# Altium integrated library NXP_60_26022015.IntLib: 1306 symbols (part 1 of 28)
Pins are listed as number, name and electrical type; pins without a type are passive.

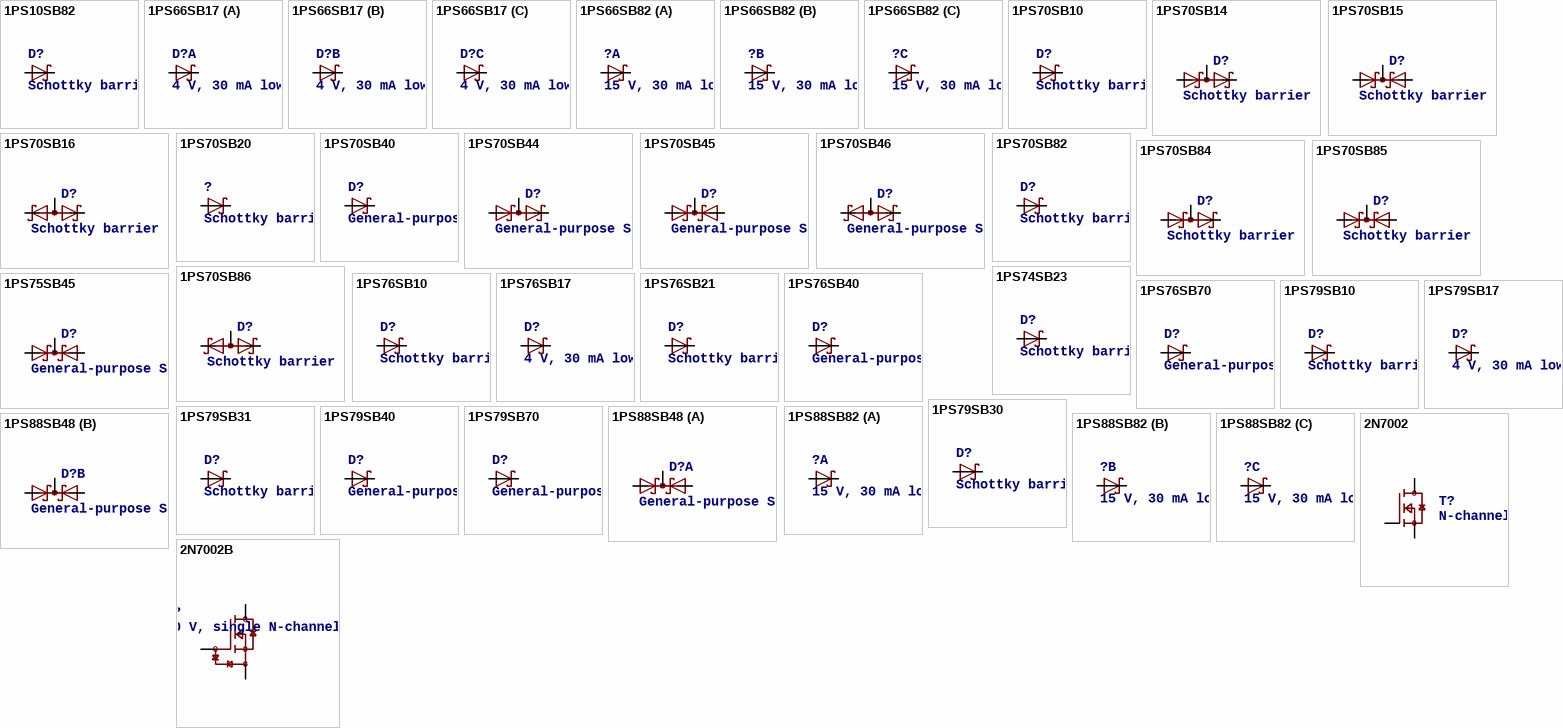
[diagram p0: symbols 1PS10SB82 to 2N7002B]

## 1PS10SB82
designator D?, comment Schottky barrier diode An epitaxial Schottky barrier diode encapsulated in a SOD882 leadless ultra small plastic package. ESD sensitive device, observe handling precautions.   AAL Eindhoven MK
footprint SOD882(T)
pins: 1 K, 2 A

## 1PS66SB17
designator D?, comment 4 V, 30 mA low Cd Schottky barrier diode Planar low capacitance Schottky barrier diode encapsulated in a very small SMD plastic package.   AAL Eindhoven MK
footprint SOT666
part A pins: 1 A, 6 K
part B pins: 2 A, 5 K
part C pins: 3 A, 4 K

## 1PS66SB82
designator ?, comment 15 V, 30 mA low Cd Schottky barrier diode  Epitaxial low capacitance Schottky barrier diodes encapsulated in very small SMD plastic packages.   AAL Eindhoven MK
footprint SOT666
part A pins: 1 A, 6 K
part B pins: 2 A, 5 K
part C pins: 3 A, 4 K

## 1PS70SB10
designator D?, comment Schottky barrier diode Planar Schottky barrier diode encapsulated in a SOT323 very small plastic SMD package. Single diodes and double diodes with different pinning are available.   AAL Eindhoven MK
footprint SOT323
pins: 1 A, 3 K

## 1PS70SB14
designator D?, comment Schottky barrier (double) diodes Planar Schottky barrier diode encapsulated in a SOT323 very small plastic SMD package. Single diodes and double diodes with different pinning are available.   AAL Eindhoven MK
footprint SOT323
pins: 1 A1, 2 K2, 3 K1A2

## 1PS70SB15
designator D?, comment Schottky barrier (double) diodes Planar Schottky barrier diode encapsulated in a SOT323 very small plastic SMD package. Single diodes and double diodes with different pinning are available.   AAL Eindhoven MK
footprint SOT323
pins: 1 A1, 2 A2, 3 K1K2

## 1PS70SB16
designator D?, comment Schottky barrier (double) diodes Planar Schottky barrier diode encapsulated in a SOT323 very small plastic SMD package. Single diodes and double diodes with different pinning are available.   AAL Eindhoven MK
footprint SOT323
pins: 1 K1, 2 K2, 3 A1A2

## 1PS70SB20
designator ?, comment Schottky barrier diode  Planar Schottky barrier diode with an integrated guard ring for stress protection in a SOT323 (SC-70) small SMD plastic package.   AAL Eindhoven MK
footprint SOT323
pins: 1 A, 3 K

## 1PS70SB40
designator D?, comment General-purpose Schottky diode  General-purpose Schottky diodes in small Surface-Mounted Device (SMD) plastic packages.    AAL Eindhoven MK
footprint SOT323
pins: 1 A, 3 K

## 1PS70SB44
designator D?, comment General-purpose Schottky diodes General-purpose Schottky diodes in small Surface-Mounted Device (SMD) plastic packages   AAL Eindhoven MK
footprint SOT323
pins: 1 A1, 2 K2, 3 K1A2

## 1PS70SB45
designator D?, comment General-purpose Schottky diodes General-purpose Schottky diodes in small Surface-Mounted Device (SMD) plastic packages   AAL Eindhoven MK
footprint SOT323
pins: 1 A1, 2 A2, 3 K1K2

## 1PS70SB46
designator D?, comment General-purpose Schottky diodes General-purpose Schottky diodes in small Surface-Mounted Device (SMD) plastic packages   AAL Eindhoven MK
footprint SOT323
pins: 1 K1, 2 K2, 3 A1A2

## 1PS70SB82
designator D?, comment Schottky barrier (double) diodes  Planar Schottky barrier diodes encapsulated in a SOT323 (SC-70) very small plastic SMD package. Single diodes and double diodes with different pinning are available. ESD sensitive device, observe handling precautions.   AAL Eindhoven MK
footprint SOT323
pins: 1 A, 3 K

## 1PS70SB84
designator D?, comment Schottky barrier (double) diodes  Planar Schottky barrier diodes encapsulated in a SOT323 (SC-70) very small plastic SMD package. Single diodes and double diodes with different pinning are available. ESD sensitive device, observe handling precautions.   AAL Eindhoven MK
footprint SOT323
pins: 1 A1, 2 K2, 3 K1A2

## 1PS70SB85
designator D?, comment Schottky barrier (double) diodes  Planar Schottky barrier diodes encapsulated in a SOT323 (SC-70) very small plastic SMD package. Single diodes and double diodes with different pinning are available. ESD sensitive device, observe handling precautions.   AAL Eindhoven MK
footprint SOT323
pins: 1 A1, 2 A2, 3 K1K2

## 1PS70SB86
designator D?, comment Schottky barrier (double) diodes  Planar Schottky barrier diodes encapsulated in a SOT323 (SC-70) very small plastic SMD package. Single diodes and double diodes with different pinning are available. ESD sensitive device, observe handling precautions.   AAL Eindhoven MK
footprint SOT323
pins: 1 K1, 2 K2, 3 A1A2

## 1PS74SB23
designator D?, comment Schottky barrier diode Planar Schottky barrier diode encapsulated in an SC-74 (SOT457) small plastic SMD package.   AAL Eindhoven MK
footprint SOT457
pins: 1 3 4 6 A, 2 5 K

## 1PS75SB45
designator D?, comment General-purpose Schottky diodes General-purpose Schottky diodes in small Surface-Mounted Device (SMD) plastic packages   AAL Eindhoven MK
footprint SOT416
pins: 1 A1, 2 A2, 3 K1K2

## 1PS76SB10
designator D?, comment Schottky barrier diode Planar Schottky barrier diode encapsulated in a SOD323 very small plastic SMD package.   AAL Eindhoven MK
footprint SOD323(F)
pins: 1 K, 2 A

## 1PS76SB17
designator D?, comment 4 V, 30 mA low Cd Schottky barrier diode Planar low capacitance Schottky barrier diode encapsulated in a very small SMD plastic package.   AAL Eindhoven MK
footprint SOD323(F)
pins: 1 K, 2 A

## 1PS76SB21
designator D?, comment Schottky barrier diodes in small packages Planar Schottky barrier diodes with an integrated guard ring for stress protection. Encapsulated in small Surface-Mounted Device (SMD) plastic packages.   AAL Eindhoven MK
footprint SOD323(F)
pins: 1 K, 2 A

## 1PS76SB40
designator D?, comment General-purpose Schottky diode  General-purpose Schottky diodes in small Surface-Mounted Device (SMD) plastic packages.    AAL Eindhoven MK
footprint SOD323(F)
pins: 1 K, 2 A

## 1PS76SB70
designator D?, comment General-purpose Schottky diode  General-purpose Schottky diodes in small Surface-Mounted Device (SMD) plastic packages.    AAL Eindhoven MK
footprint SOD323(F)
pins: 1 K, 2 A

## 1PS79SB10
designator D?, comment Schottky barrier diode Planar Schottky barrier diode encapsulated in a SC-79 ultra small plastic SMD package.    AAL Eindhoven MK
footprint SOD523
pins: 1 K, 2 A

## 1PS79SB17
designator D?, comment 4 V, 30 mA low Cd Schottky barrier diode Planar low capacitance Schottky barrier diode encapsulated in a very small SMD plastic package.   AAL Eindhoven MK
footprint SOD523
pins: 1 K, 2 A

## 1PS79SB30
designator D?, comment Schottky barrier diode Planar Schottky barrier diode encapsulated in a SC-79 ultra small plastic SMD package.    AAL Eindhoven MK
footprint SOD523
pins: 1 K, 2 A

## 1PS79SB31
designator D?, comment Schottky barrier diode Planar Schottky barrier diode encapsulated in a SC-79 ultra small plastic SMD package.    AAL Eindhoven MK
footprint SOD523
pins: 1 K, 2 A

## 1PS79SB40
designator D?, comment General-purpose Schottky diode  General-purpose Schottky diodes in small Surface-Mounted Device (SMD) plastic packages.    AAL Eindhoven MK
footprint SOD523
pins: 1 K, 2 A

## 1PS79SB70
designator D?, comment General-purpose Schottky diode  General-purpose Schottky diodes in small Surface-Mounted Device (SMD) plastic packages.    AAL Eindhoven MK
footprint SOD523
pins: 1 K, 2 A

## 1PS88SB48
designator D?, comment General-purpose Schottky diodes  General-purpose Schottky diodes in small Surface-Mounted Device (SMD) plastic packages.   AAL Eindhoven MK
footprint SOT363
part A pins: 1 A1, 2 A2, 6 K1K2
part B pins: 3 K1K2, 4 A1, 5 A2

## 1PS88SB82
designator ?, comment 15 V, 30 mA low Cd Schottky barrier diode  Epitaxial low capacitance Schottky barrier diodes encapsulated in very small SMD plastic packages.   AAL Eindhoven MK
footprint SOT363
part A pins: 1 A, 6 K
part B pins: 2 A, 5 K
part C pins: 3 A, 4 K

## 2N7002
designator T?, comment N-channel TrenchMOS FET N-channel enhancement mode Field-Effect Transistor (FET) in a plastic package using TrenchMOS technology.    AAL Eindhoven MK
footprint SOT23
pins: 1 G, 2 S, 3 D

## 2N7002B
designator T?, comment 60 V, single N-channel Trench MOSFET N-channel enhancement mode Field-Effect Transistor (FET) in a leadless ultra small DFN1006B-3 (SOT883B) Surface-Mounted Device (SMD) plastic package using Trench MOSFET technology.   AAL Eindhoven MK
footprint SOT883(B)
pins: 1 G, 2 S, 3 D

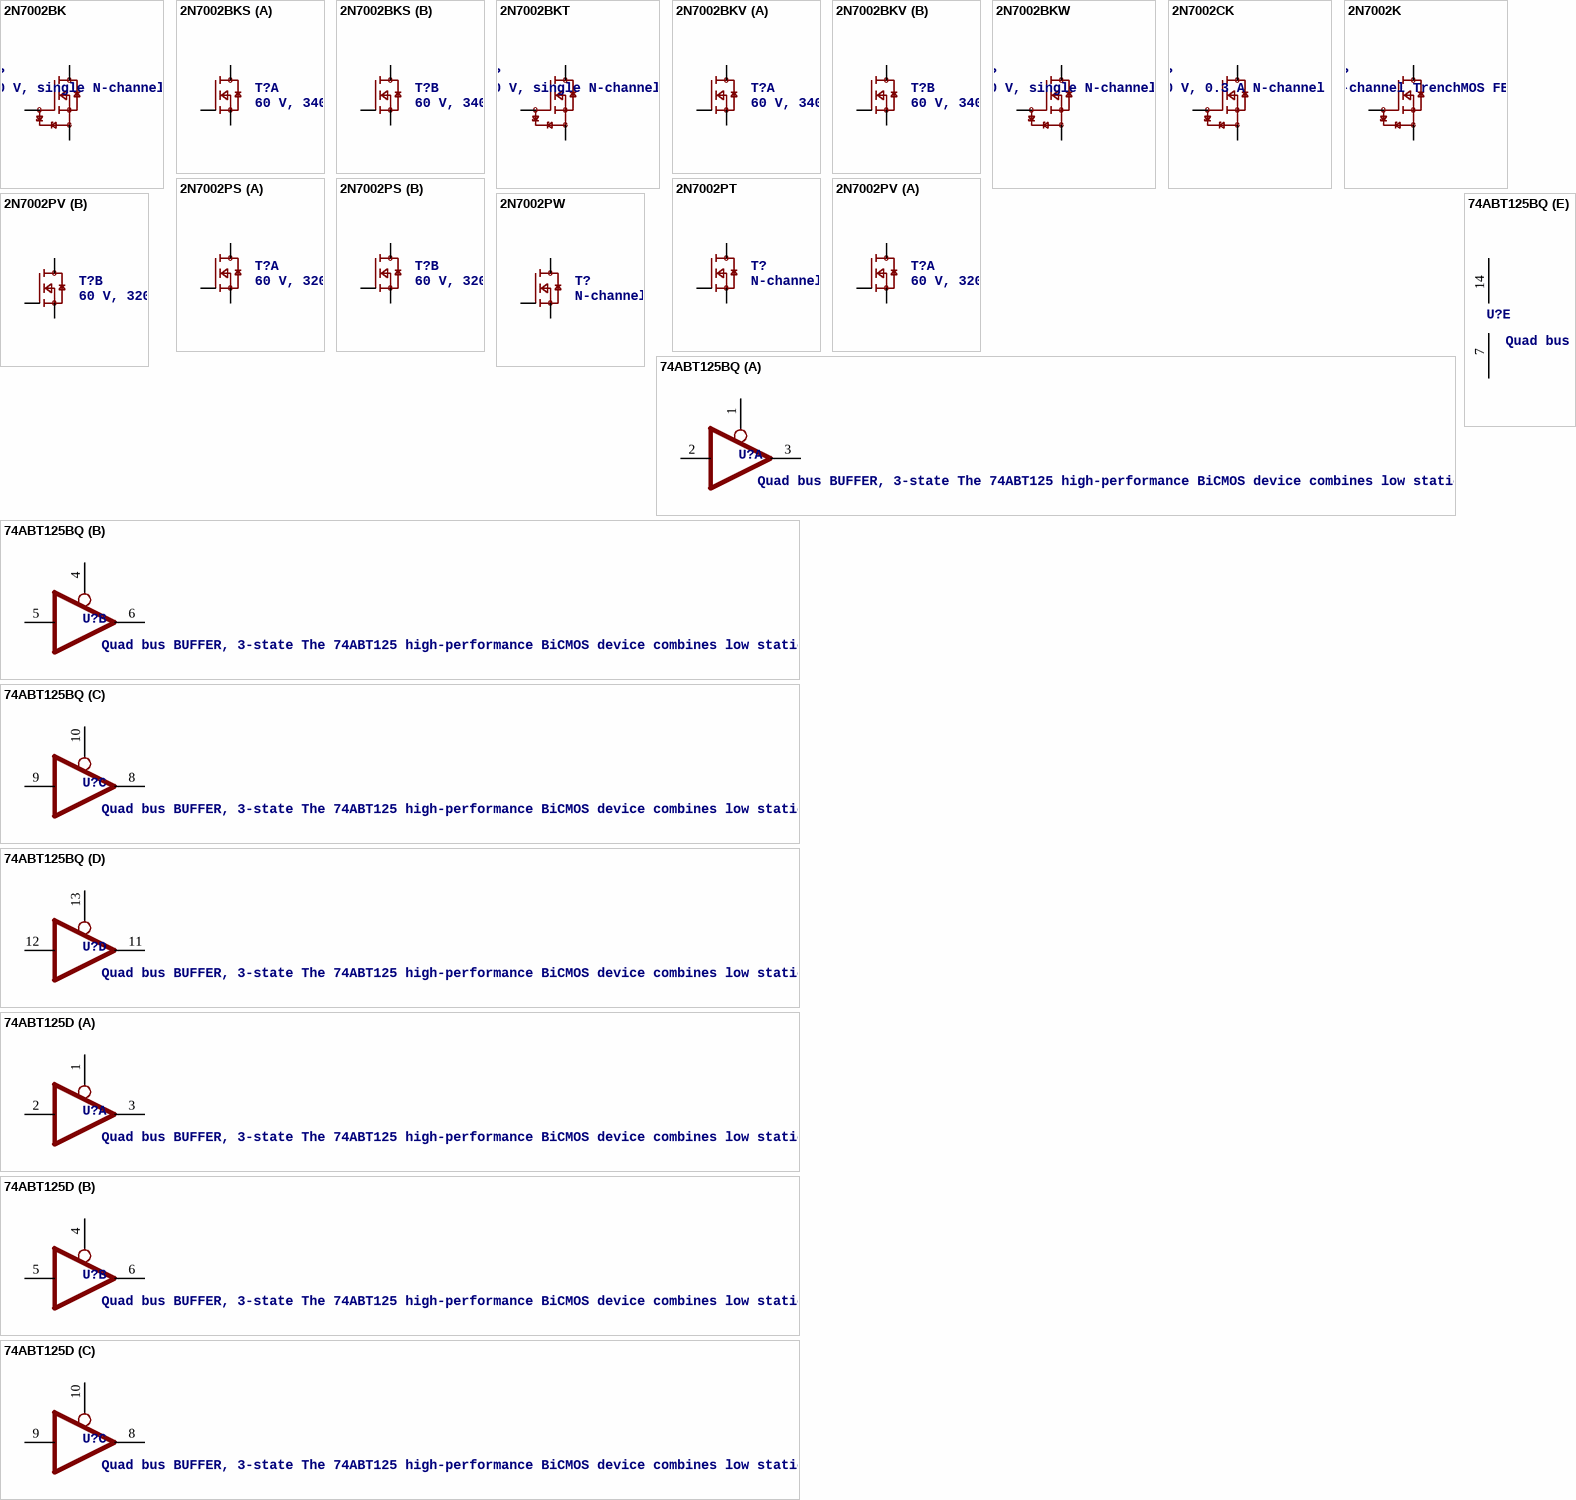
[diagram p1: symbols 2N7002BK to 74ABT125D]

## 2N7002BK
designator T?, comment 60 V, single N-channel Trench MOSFET N-channel enhancement mode Field-Effect Transistor (FET) in a leadless ultra small DFN1006B-3 (SOT883B) Surface-Mounted Device (SMD) plastic package using Trench MOSFET technology.   AAL Eindhoven MK
footprint SOT23
pins: 1 G, 2 S, 3 D

## 2N7002BKS
designator T?, comment 60 V, 340 mA dual N-channel Trench MOSFET Dual N-channel enhancement mode Field-Effect Transistor (FET) in an ultra small SOT666 Surface-Mounted Device (SMD) plastic package using Trench MOSFET technology.    AAL Eindhoven MK
footprint SOT363
part A pins: 1 S, 2 G, 6 D
part B pins: 3 D, 4 S, 5 G

## 2N7002BKT
designator T?, comment 60 V, single N-channel Trench MOSFET N-channel enhancement mode Field-Effect Transistor (FET) in a leadless ultra small DFN1006B-3 (SOT883B) Surface-Mounted Device (SMD) plastic package using Trench MOSFET technology.   AAL Eindhoven MK
footprint SOT416
pins: 1 G, 2 S, 3 D

## 2N7002BKV
designator T?, comment 60 V, 340 mA dual N-channel Trench MOSFET Dual N-channel enhancement mode Field-Effect Transistor (FET) in an ultra small SOT666 Surface-Mounted Device (SMD) plastic package using Trench MOSFET technology.    AAL Eindhoven MK
footprint SOT666
part A pins: 1 S, 2 G, 6 D
part B pins: 3 D, 4 S, 5 G

## 2N7002BKW
designator T?, comment 60 V, single N-channel Trench MOSFET N-channel enhancement mode Field-Effect Transistor (FET) in a leadless ultra small DFN1006B-3 (SOT883B) Surface-Mounted Device (SMD) plastic package using Trench MOSFET technology.   AAL Eindhoven MK
footprint SOT323
pins: 1 G, 2 S, 3 D

## 2N7002CK
designator T?, comment 60 V, 0.3 A N-channel Trench MOSFET ESD protected N-channel enhancement mode Field-Effect Transistor (FET) in a small SOT23 (TO-236AB) Surface-Mounted Device (SMD) plastic package using Trench MOSFET technology.    AAL Eindhoven MK
footprint SOT23
pins: 1 G, 2 S, 3 D

## 2N7002K
designator T?, comment N-channel TrenchMOS FET N-channel enhancement mode Field-Effect Transistor (FET) in a plastic package using TrenchMOS technology.    AAL Eindhoven MK
footprint SOT23
pins: 1 G, 2 S, 3 D

## 2N7002PS
designator T?, comment 60 V, 320 mA N-channel Trench MOSFET Dual N-channel enhancement mode Field-Effect Transistor (FET) in a very small SOT363 (SC-88) Surface-Mounted Device (SMD) plastic package using Trench MOSFET technology.    AAL Eindhoven MK
footprint SOT363
part A pins: 1 S, 2 G, 6 D
part B pins: 3 D, 4 S, 5 G

## 2N7002PT
designator T?, comment N-channel TrenchMOS FET N-channel enhancement mode Field-Effect Transistor (FET) in a plastic package using TrenchMOS technology.    AAL Eindhoven MK
footprint SOT416
pins: 1 G, 2 S, 3 D

## 2N7002PV
designator T?, comment 60 V, 320 mA N-channel Trench MOSFET Dual N-channel enhancement mode Field-Effect Transistor (FET) in a very small SOT363 (SC-88) Surface-Mounted Device (SMD) plastic package using Trench MOSFET technology.    AAL Eindhoven MK
footprint SOT666
part A pins: 1 S, 2 G, 6 D
part B pins: 3 D, 4 S, 5 G

## 2N7002PW
designator T?, comment N-channel TrenchMOS FET N-channel enhancement mode Field-Effect Transistor (FET) in a plastic package using TrenchMOS technology.    AAL Eindhoven MK
footprint SOT323
pins: 1 G, 2 S, 3 D

## 74ABT125BQ
designator U?, comment Quad bus BUFFER, 3-state The 74ABT125 high-performance BiCMOS device combines low static and dynamic power dissipation with high speed and high output drive. The 74ABT125 device is a quad buffer that is ideal for driving bus lines. The device features four Output Enables (1OE, 2OE, 3OE, 4OE), each controlling one of the 3-state outputs.   AAL Eindhoven MK
footprint SOT762-1
part A pins: 1 OE, 2 I, 3 O (hiz)
part B pins: 4 OE, 5 I, 6 O (hiz)
part C pins: 8 O (hiz), 9 I, 10 OE
part D pins: 11 O (hiz), 12 I, 13 OE
part E pins: 7 GND (power), 14 VCC (power)

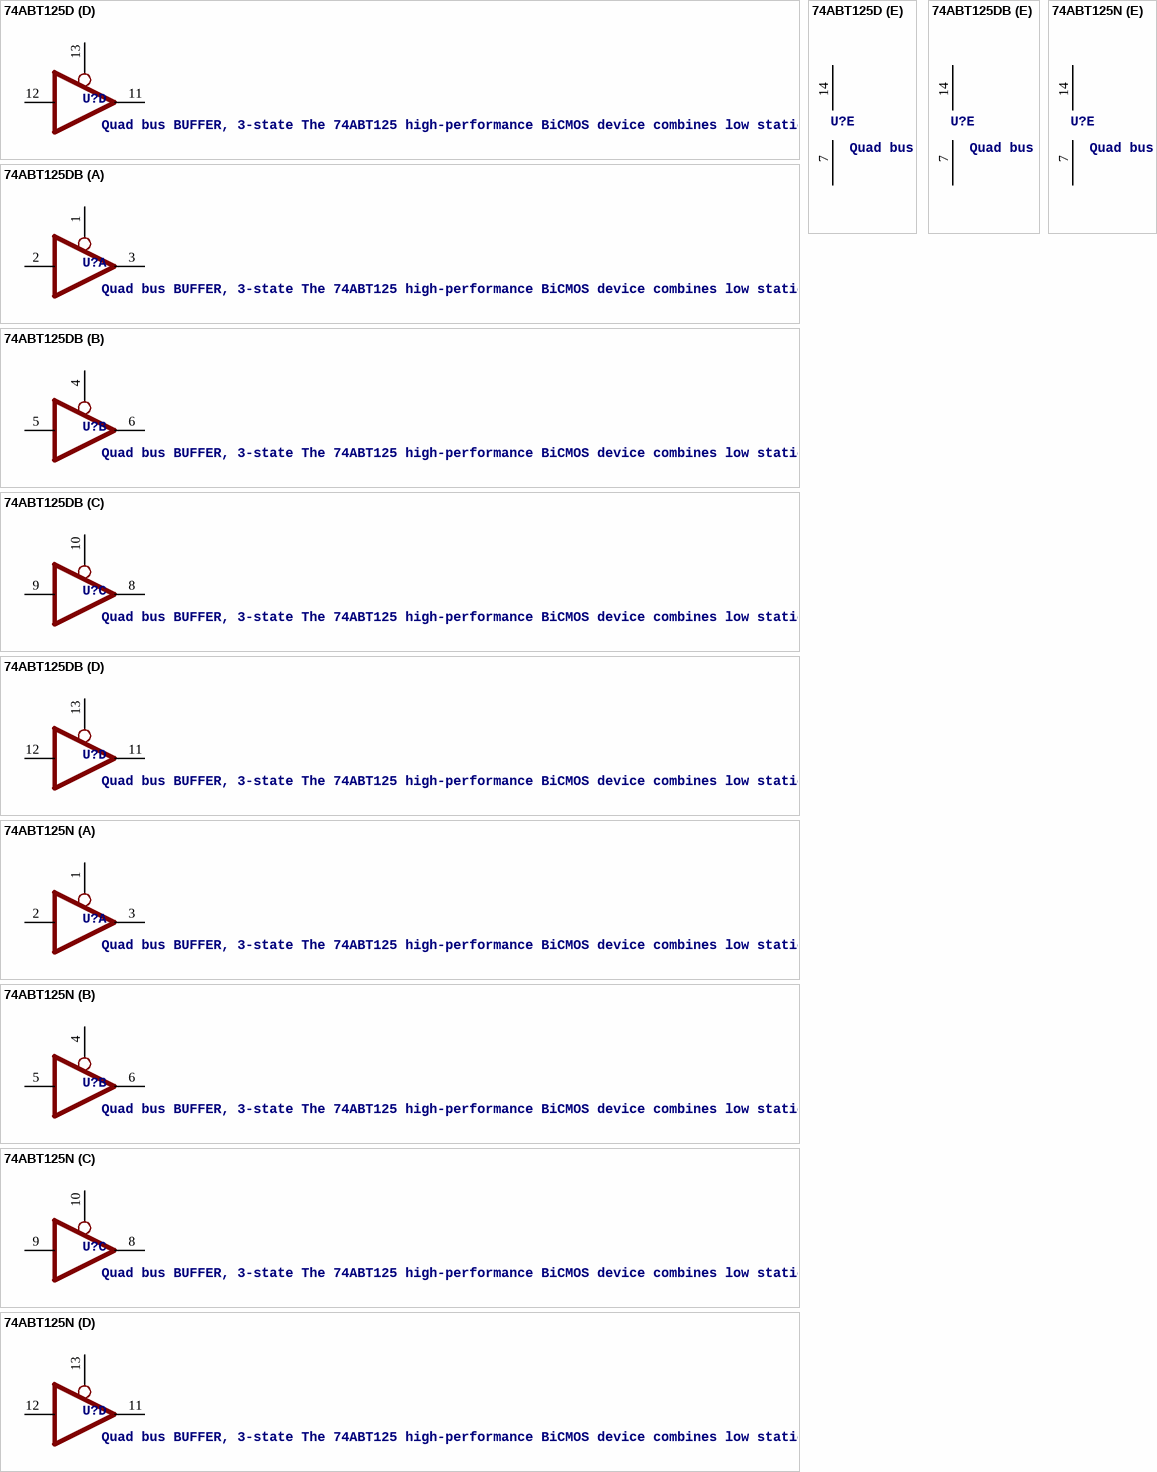
[diagram p2: symbols 74ABT125D to 74ABT125N]

## 74ABT125D
designator U?, comment Quad bus BUFFER, 3-state The 74ABT125 high-performance BiCMOS device combines low static and dynamic power dissipation with high speed and high output drive. The 74ABT125 device is a quad buffer that is ideal for driving bus lines. The device features four Output Enables (1OE, 2OE, 3OE, 4OE), each controlling one of the 3-state outputs.   AAL Eindhoven MK
footprint SOT108-1
part A pins: 1 OE, 2 I, 3 O (hiz)
part B pins: 4 OE, 5 I, 6 O (hiz)
part C pins: 8 O (hiz), 9 I, 10 OE
part D pins: 11 O (hiz), 12 I, 13 OE
part E pins: 7 GND (power), 14 VCC (power)

## 74ABT125DB
designator U?, comment Quad bus BUFFER, 3-state The 74ABT125 high-performance BiCMOS device combines low static and dynamic power dissipation with high speed and high output drive. The 74ABT125 device is a quad buffer that is ideal for driving bus lines. The device features four Output Enables (1OE, 2OE, 3OE, 4OE), each controlling one of the 3-state outputs.   AAL Eindhoven MK
footprint SOT337
part A pins: 1 OE, 2 I, 3 O (hiz)
part B pins: 4 OE, 5 I, 6 O (hiz)
part C pins: 8 O (hiz), 9 I, 10 OE
part D pins: 11 O (hiz), 12 I, 13 OE
part E pins: 7 GND (power), 14 VCC (power)

## 74ABT125N
designator U?, comment Quad bus BUFFER, 3-state The 74ABT125 high-performance BiCMOS device combines low static and dynamic power dissipation with high speed and high output drive. The 74ABT125 device is a quad buffer that is ideal for driving bus lines. The device features four Output Enables (1OE, 2OE, 3OE, 4OE), each controlling one of the 3-state outputs.   AAL Eindhoven MK
footprint SOT27
part A pins: 1 OE, 2 I, 3 O (hiz)
part B pins: 4 OE, 5 I, 6 O (hiz)
part C pins: 8 O (hiz), 9 I, 10 OE
part D pins: 11 O (hiz), 12 I, 13 OE
part E pins: 7 GND (power), 14 VCC (power)

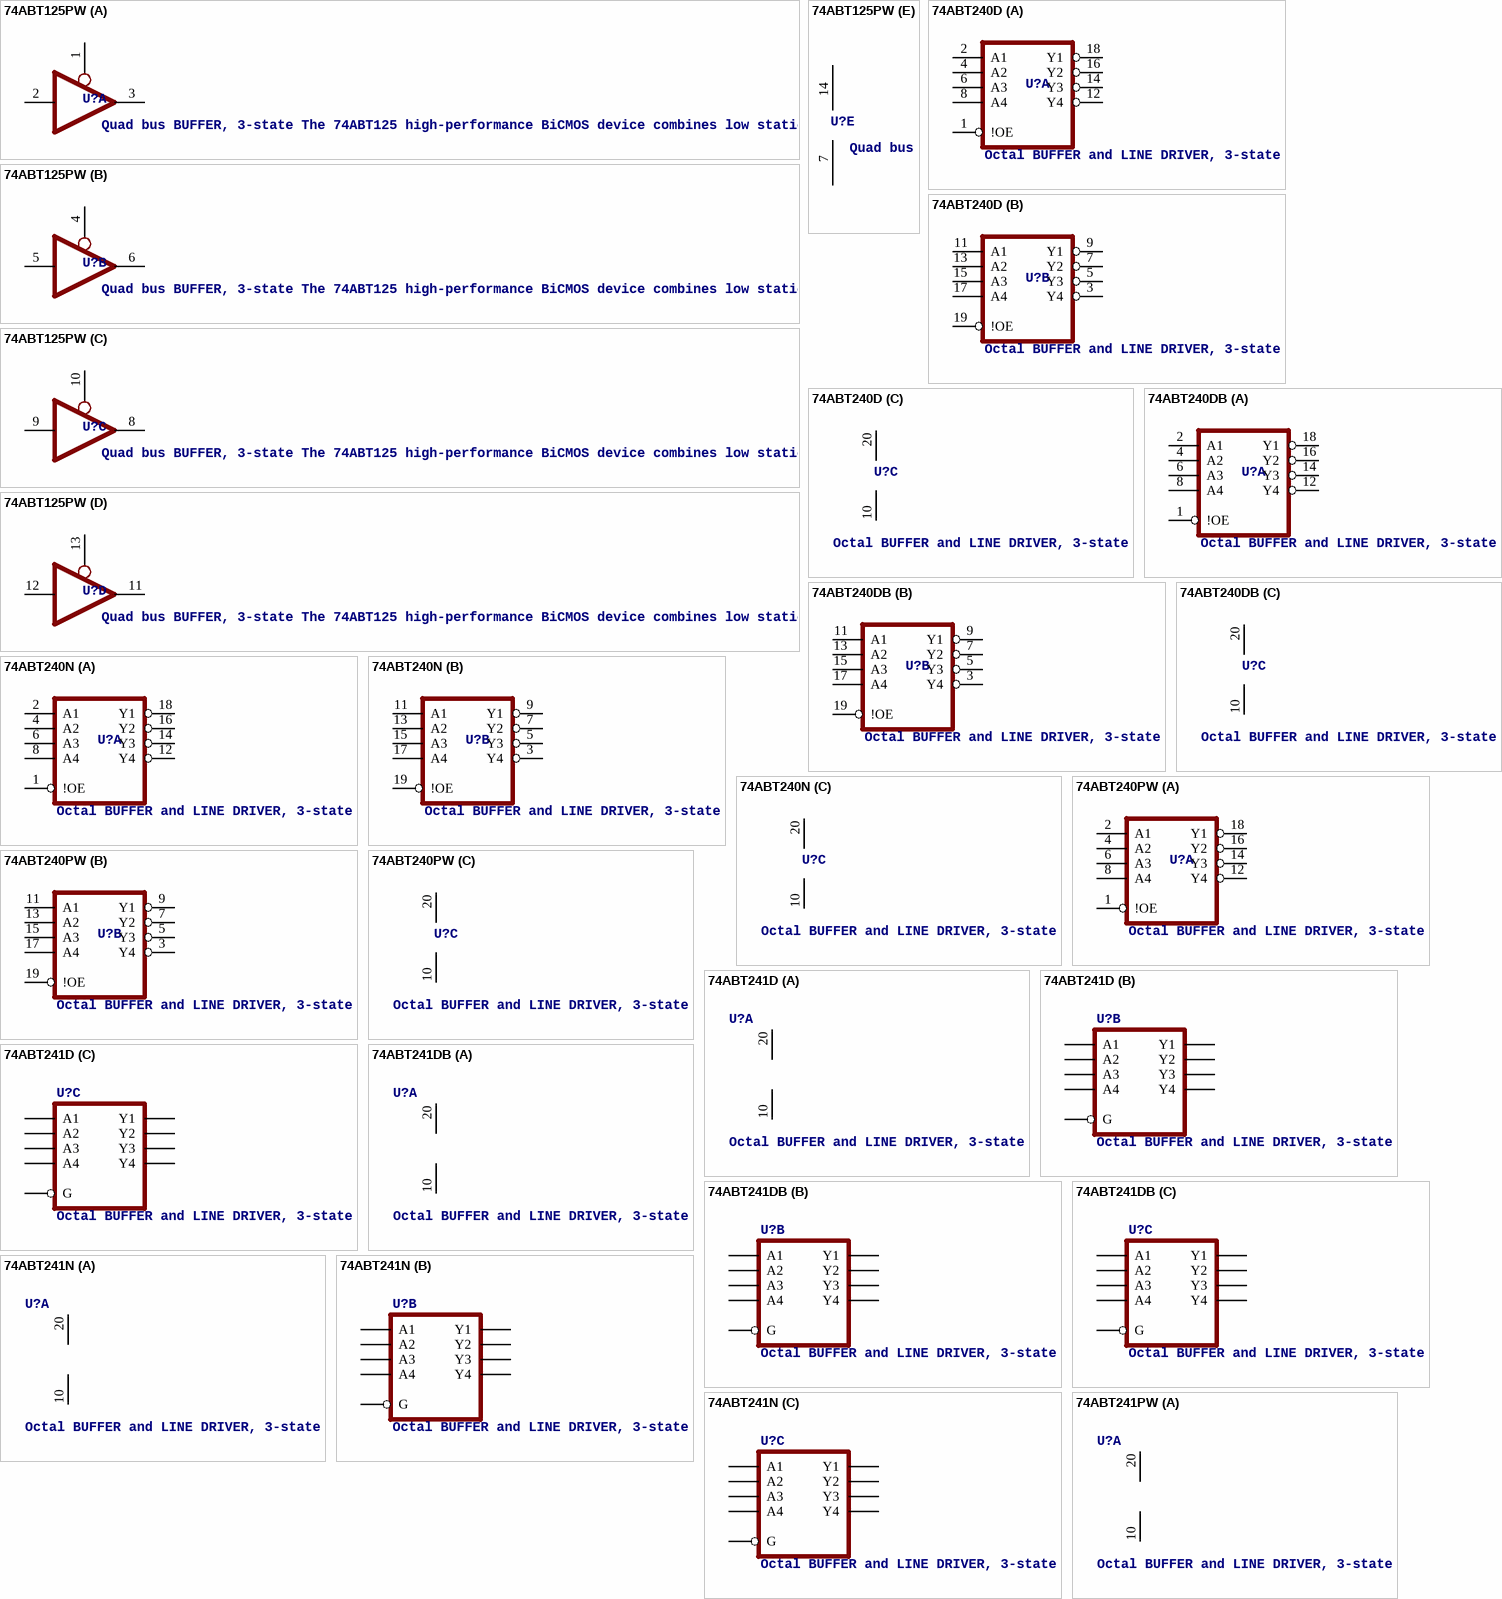
[diagram p3: symbols 74ABT125PW to 74ABT241PW]

## 74ABT125PW
designator U?, comment Quad bus BUFFER, 3-state The 74ABT125 high-performance BiCMOS device combines low static and dynamic power dissipation with high speed and high output drive. The 74ABT125 device is a quad buffer that is ideal for driving bus lines. The device features four Output Enables (1OE, 2OE, 3OE, 4OE), each controlling one of the 3-state outputs.   AAL Eindhoven MK
footprint SOT402-1
part A pins: 1 OE, 2 I, 3 O (hiz)
part B pins: 4 OE, 5 I, 6 O (hiz)
part C pins: 8 O (hiz), 9 I, 10 OE
part D pins: 11 O (hiz), 12 I, 13 OE
part E pins: 7 GND (power), 14 VCC (power)

## 74ABT240D
designator U?, comment Octal BUFFER and LINE DRIVER, 3-state
footprint SOT163-1
part A pins: 1 !OE, 2 A1, 4 A2, 6 A3, 8 A4, 12 Y4 (hiz), 14 Y3 (hiz), 16 Y2 (hiz), 18 Y1 (hiz)
part B pins: 3 Y4 (hiz), 5 Y3 (hiz), 7 Y2 (hiz), 9 Y1 (hiz), 11 A1, 13 A2, 15 A3, 17 A4, 19 !OE
part C pins: 10 GND (power), 20 VCC (power)

## 74ABT240DB
designator U?, comment Octal BUFFER and LINE DRIVER, 3-state
footprint SOT339
part A pins: 1 !OE, 2 A1, 4 A2, 6 A3, 8 A4, 12 Y4 (hiz), 14 Y3 (hiz), 16 Y2 (hiz), 18 Y1 (hiz)
part B pins: 3 Y4 (hiz), 5 Y3 (hiz), 7 Y2 (hiz), 9 Y1 (hiz), 11 A1, 13 A2, 15 A3, 17 A4, 19 !OE
part C pins: 10 GND (power), 20 VCC (power)

## 74ABT240N
designator U?, comment Octal BUFFER and LINE DRIVER, 3-state
footprint SOT146
part A pins: 1 !OE, 2 A1, 4 A2, 6 A3, 8 A4, 12 Y4 (hiz), 14 Y3 (hiz), 16 Y2 (hiz), 18 Y1 (hiz)
part B pins: 3 Y4 (hiz), 5 Y3 (hiz), 7 Y2 (hiz), 9 Y1 (hiz), 11 A1, 13 A2, 15 A3, 17 A4, 19 !OE
part C pins: 10 GND (power), 20 VCC (power)

## 74ABT240PW
designator U?, comment Octal BUFFER and LINE DRIVER, 3-state
footprint SOT360
part A pins: 1 !OE, 2 A1, 4 A2, 6 A3, 8 A4, 12 Y4 (hiz), 14 Y3 (hiz), 16 Y2 (hiz), 18 Y1 (hiz)
part B pins: 3 Y4 (hiz), 5 Y3 (hiz), 7 Y2 (hiz), 9 Y1 (hiz), 11 A1, 13 A2, 15 A3, 17 A4, 19 !OE
part C pins: 10 GND (power), 20 VCC (power)

## 74ABT241D
designator U?, comment Octal BUFFER and LINE DRIVER, 3-state
footprint SOT163-1
part A pins: 10 GND (power), 20 VCC (power)
part B pins: ? G, ? A1, ? A2, ? A3, ? A4, ? Y4 (hiz), ? Y3 (hiz), ? Y2 (hiz), ? Y1 (hiz)
part C pins: ? G, ? A1, ? A2, ? A3, ? A4, ? Y4 (hiz), ? Y3 (hiz), ? Y2 (hiz), ? Y1 (hiz)

## 74ABT241DB
designator U?, comment Octal BUFFER and LINE DRIVER, 3-state
footprint SOT339
part A pins: 10 GND (power), 20 VCC (power)
part B pins: ? G, ? A1, ? A2, ? A3, ? A4, ? Y4 (hiz), ? Y3 (hiz), ? Y2 (hiz), ? Y1 (hiz)
part C pins: ? G, ? A1, ? A2, ? A3, ? A4, ? Y4 (hiz), ? Y3 (hiz), ? Y2 (hiz), ? Y1 (hiz)

## 74ABT241N
designator U?, comment Octal BUFFER and LINE DRIVER, 3-state
footprint SOT146
part A pins: 10 GND (power), 20 VCC (power)
part B pins: ? G, ? A1, ? A2, ? A3, ? A4, ? Y4 (hiz), ? Y3 (hiz), ? Y2 (hiz), ? Y1 (hiz)
part C pins: ? G, ? A1, ? A2, ? A3, ? A4, ? Y4 (hiz), ? Y3 (hiz), ? Y2 (hiz), ? Y1 (hiz)

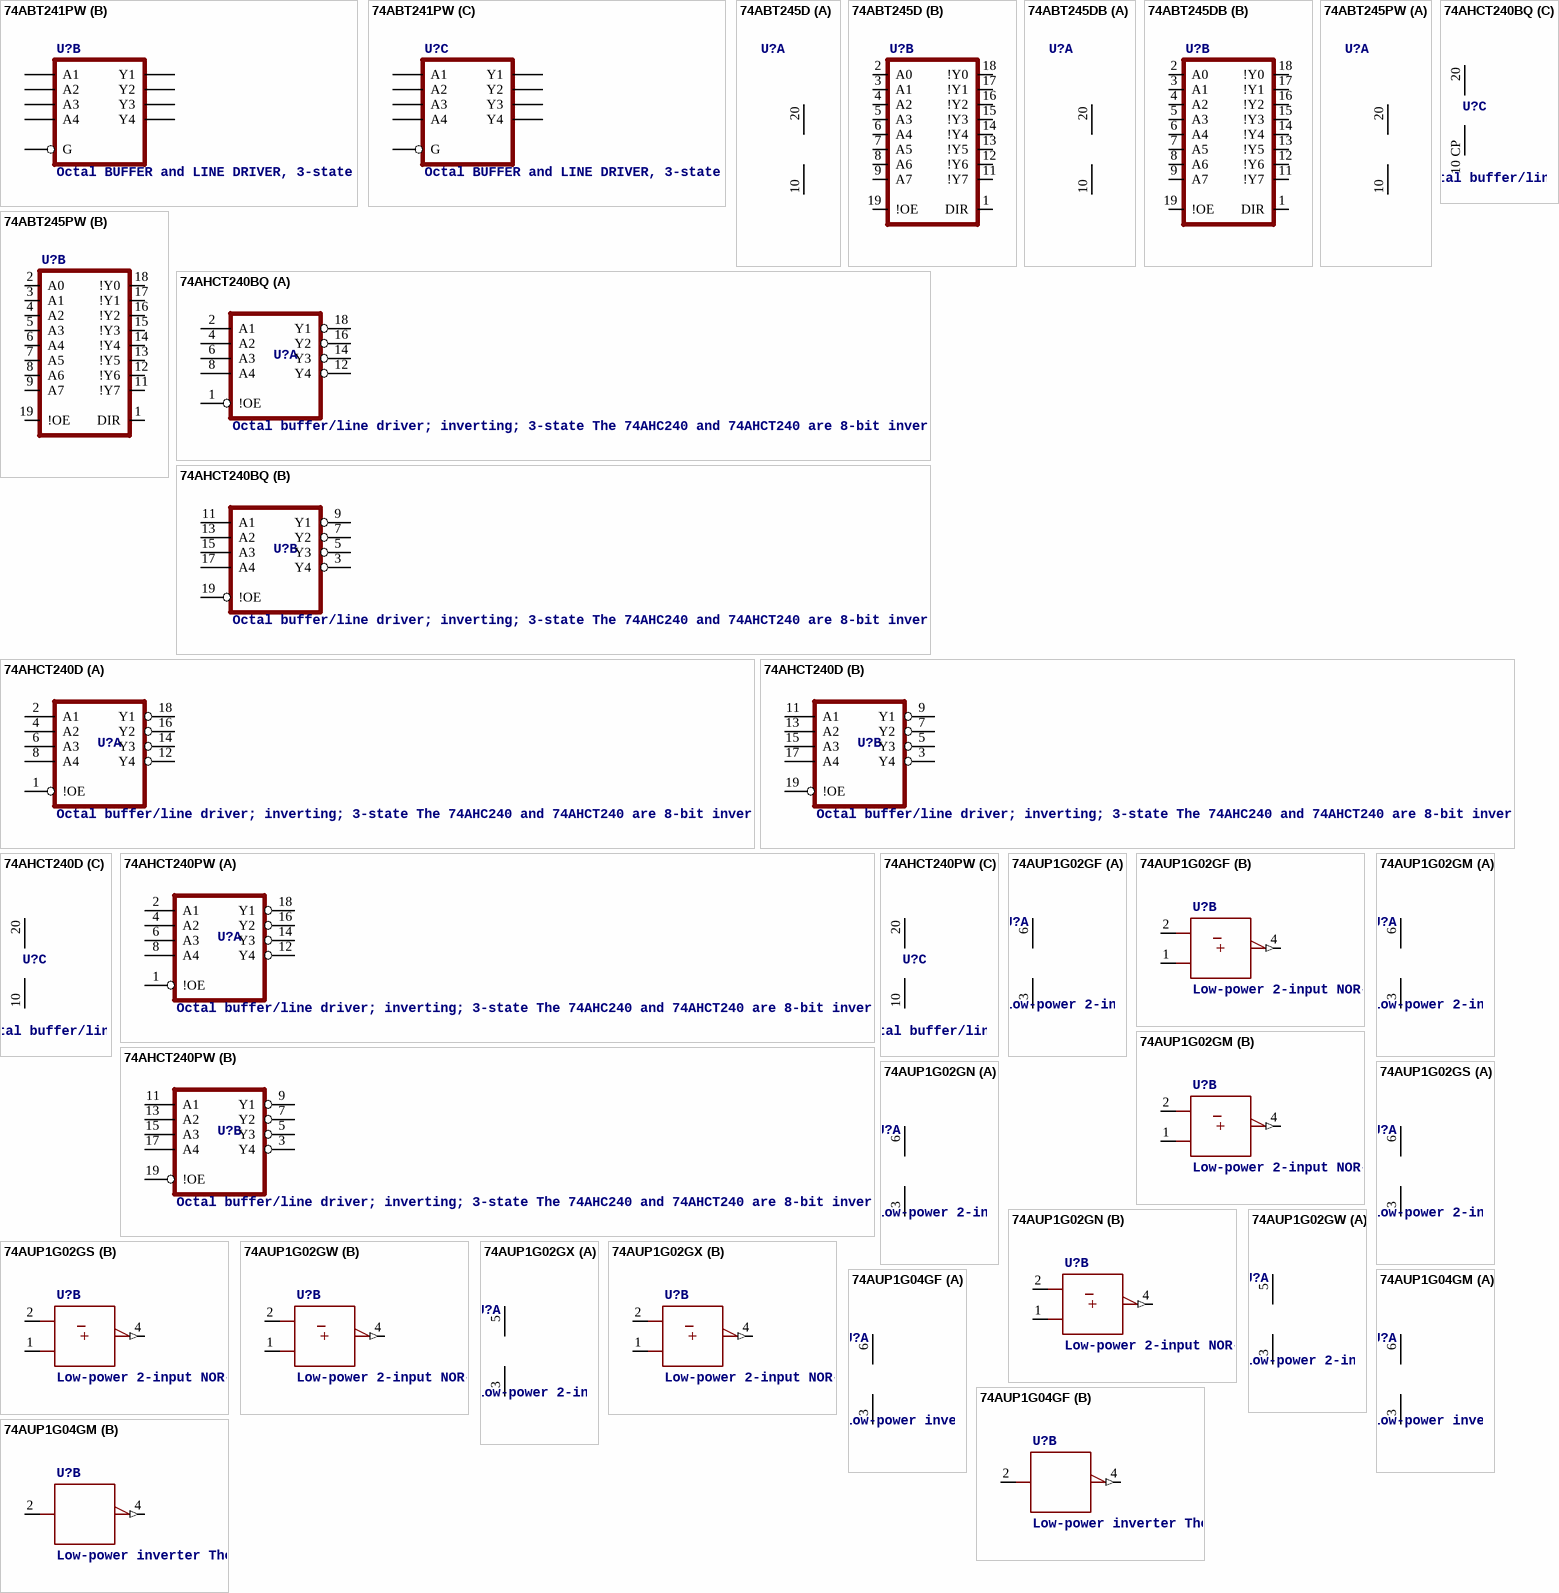
[diagram p4: symbols 74ABT241PW to 74AUP1G04GM]

## 74ABT241PW
designator U?, comment Octal BUFFER and LINE DRIVER, 3-state
footprint SOT360
part A pins: 10 GND (power), 20 VCC (power)
part B pins: ? G, ? A1, ? A2, ? A3, ? A4, ? Y4 (hiz), ? Y3 (hiz), ? Y2 (hiz), ? Y1 (hiz)
part C pins: ? G, ? A1, ? A2, ? A3, ? A4, ? Y4 (hiz), ? Y3 (hiz), ? Y2 (hiz), ? Y1 (hiz)

## 74ABT245D
designator U?
footprint SOT163-1
part A pins: 10 GND (power), 20 VCC (power)
part B pins: 1 DIR, 2 A0, 3 A1, 4 A2, 5 A3, 6 A4, 7 A5, 8 A6, 9 A7, 11 !Y7 (hiz), 12 !Y6 (hiz), 13 !Y5 (hiz), 14 !Y4 (hiz), 15 !Y3 (hiz), 16 !Y2 (hiz), 17 !Y1 (hiz), 18 !Y0 (hiz), 19 !OE

## 74ABT245DB
designator U?
footprint SOT339
part A pins: 10 GND (power), 20 VCC (power)
part B pins: 1 DIR, 2 A0, 3 A1, 4 A2, 5 A3, 6 A4, 7 A5, 8 A6, 9 A7, 11 !Y7 (hiz), 12 !Y6 (hiz), 13 !Y5 (hiz), 14 !Y4 (hiz), 15 !Y3 (hiz), 16 !Y2 (hiz), 17 !Y1 (hiz), 18 !Y0 (hiz), 19 !OE

## 74ABT245PW
designator U?
footprint SOT360
part A pins: 10 GND (power), 20 VCC (power)
part B pins: 1 DIR, 2 A0, 3 A1, 4 A2, 5 A3, 6 A4, 7 A5, 8 A6, 9 A7, 11 !Y7 (hiz), 12 !Y6 (hiz), 13 !Y5 (hiz), 14 !Y4 (hiz), 15 !Y3 (hiz), 16 !Y2 (hiz), 17 !Y1 (hiz), 18 !Y0 (hiz), 19 !OE

## 74AHCT240BQ
designator U?, comment Octal buffer/line driver; inverting; 3-state The 74AHC240 and 74AHCT240 are 8-bit inverting buffer/line drivers with 3-state outputs. These devices can be used as two 4-bit buffers or one 8-bit buffer. They feature two output enables (1OE and 2OE), each controlling four of the 3-state outputs. A HIGH on nOE causes the outputs to assume a high-impedance OFF-state. Inputs are over voltage tolerant. This feature allows the use of these devices as translators in mixed voltage environments.    AAL Eindhoven MK
footprint SOT764
part A pins: 1 !OE, 2 A1, 4 A2, 6 A3, 8 A4, 12 Y4 (hiz), 14 Y3 (hiz), 16 Y2 (hiz), 18 Y1 (hiz)
part B pins: 3 Y4 (hiz), 5 Y3 (hiz), 7 Y2 (hiz), 9 Y1 (hiz), 11 A1, 13 A2, 15 A3, 17 A4, 19 !OE
part C pins: 10 CP GND (power), 20 VCC (power)

## 74AHCT240D
designator U?, comment Octal buffer/line driver; inverting; 3-state The 74AHC240 and 74AHCT240 are 8-bit inverting buffer/line drivers with 3-state outputs. These devices can be used as two 4-bit buffers or one 8-bit buffer. They feature two output enables (1OE and 2OE), each controlling four of the 3-state outputs. A HIGH on nOE causes the outputs to assume a high-impedance OFF-state. Inputs are over voltage tolerant. This feature allows the use of these devices as translators in mixed voltage environments.    AAL Eindhoven MK
footprint SOT163-1
part A pins: 1 !OE, 2 A1, 4 A2, 6 A3, 8 A4, 12 Y4 (hiz), 14 Y3 (hiz), 16 Y2 (hiz), 18 Y1 (hiz)
part B pins: 3 Y4 (hiz), 5 Y3 (hiz), 7 Y2 (hiz), 9 Y1 (hiz), 11 A1, 13 A2, 15 A3, 17 A4, 19 !OE
part C pins: 10 GND (power), 20 VCC (power)

## 74AHCT240PW
designator U?, comment Octal buffer/line driver; inverting; 3-state The 74AHC240 and 74AHCT240 are 8-bit inverting buffer/line drivers with 3-state outputs. These devices can be used as two 4-bit buffers or one 8-bit buffer. They feature two output enables (1OE and 2OE), each controlling four of the 3-state outputs. A HIGH on nOE causes the outputs to assume a high-impedance OFF-state. Inputs are over voltage tolerant. This feature allows the use of these devices as translators in mixed voltage environments.    AAL Eindhoven MK
footprint SOT360
part A pins: 1 !OE, 2 A1, 4 A2, 6 A3, 8 A4, 12 Y4 (hiz), 14 Y3 (hiz), 16 Y2 (hiz), 18 Y1 (hiz)
part B pins: 3 Y4 (hiz), 5 Y3 (hiz), 7 Y2 (hiz), 9 Y1 (hiz), 11 A1, 13 A2, 15 A3, 17 A4, 19 !OE
part C pins: 10 GND (power), 20 VCC (power)

## 74AUP1G02GF
designator U?, comment Low-power 2-input NOR-gate The 74AUP1G02 provides the single 2-input NOR function. Schmitt-trigger action at all inputs makes the circuit tolerant to slower input rise and fall times across the entire VCC range from 0.8 V to 3.6 V. This device ensures a very low static and dynamic power consumption across the entire VCC range from 0.8 V to 3.6 V. This device is fully specified for partial Power-down applications using IOFF. The IOFF circuitry disables the output, preventing the damaging backflow current through the device when it is powered down.    AAL Eindhoven MK
footprint SOT891
part A pins: 3 GND (power), 6 VCC (power)
part B pins: 1 B, 2 A, 4 Y (out)

## 74AUP1G02GM
designator U?, comment Low-power 2-input NOR-gate The 74AUP1G02 provides the single 2-input NOR function. Schmitt-trigger action at all inputs makes the circuit tolerant to slower input rise and fall times across the entire VCC range from 0.8 V to 3.6 V. This device ensures a very low static and dynamic power consumption across the entire VCC range from 0.8 V to 3.6 V. This device is fully specified for partial Power-down applications using IOFF. The IOFF circuitry disables the output, preventing the damaging backflow current through the device when it is powered down.    AAL Eindhoven MK
footprint SOT886
part A pins: 3 GND (power), 6 VCC (power)
part B pins: 1 B, 2 A, 4 Y (out)

## 74AUP1G02GN
designator U?, comment Low-power 2-input NOR-gate The 74AUP1G02 provides the single 2-input NOR function. Schmitt-trigger action at all inputs makes the circuit tolerant to slower input rise and fall times across the entire VCC range from 0.8 V to 3.6 V. This device ensures a very low static and dynamic power consumption across the entire VCC range from 0.8 V to 3.6 V. This device is fully specified for partial Power-down applications using IOFF. The IOFF circuitry disables the output, preventing the damaging backflow current through the device when it is powered down.    AAL Eindhoven MK
footprint SOT1115
part A pins: 3 GND (power), 6 VCC (power)
part B pins: 1 B, 2 A, 4 Y (out)

## 74AUP1G02GS
designator U?, comment Low-power 2-input NOR-gate The 74AUP1G02 provides the single 2-input NOR function. Schmitt-trigger action at all inputs makes the circuit tolerant to slower input rise and fall times across the entire VCC range from 0.8 V to 3.6 V. This device ensures a very low static and dynamic power consumption across the entire VCC range from 0.8 V to 3.6 V. This device is fully specified for partial Power-down applications using IOFF. The IOFF circuitry disables the output, preventing the damaging backflow current through the device when it is powered down.    AAL Eindhoven MK
footprint SOT1202
part A pins: 3 GND (power), 6 VCC (power)
part B pins: 1 B, 2 A, 4 Y (out)

## 74AUP1G02GW
designator U?, comment Low-power 2-input NOR-gate The 74AUP1G02 provides the single 2-input NOR function. Schmitt-trigger action at all inputs makes the circuit tolerant to slower input rise and fall times across the entire VCC range from 0.8 V to 3.6 V. This device ensures a very low static and dynamic power consumption across the entire VCC range from 0.8 V to 3.6 V. This device is fully specified for partial Power-down applications using IOFF. The IOFF circuitry disables the output, preventing the damaging backflow current through the device when it is powered down.    AAL Eindhoven MK
footprint SOT353-1
part A pins: 3 GND (power), 5 VCC (power)
part B pins: 1 B, 2 A, 4 Y (out)

## 74AUP1G02GX
designator U?, comment Low-power 2-input NOR-gate The 74AUP1G02 provides the single 2-input NOR function. Schmitt-trigger action at all inputs makes the circuit tolerant to slower input rise and fall times across the entire VCC range from 0.8 V to 3.6 V. This device ensures a very low static and dynamic power consumption across the entire VCC range from 0.8 V to 3.6 V. This device is fully specified for partial Power-down applications using IOFF. The IOFF circuitry disables the output, preventing the damaging backflow current through the device when it is powered down.    AAL Eindhoven MK
footprint SOT1226
part A pins: 3 GND (power), 5 VCC (power)
part B pins: 1 B, 2 A, 4 Y (out)

## 74AUP1G04GF
designator U?, comment Low-power inverter The 74AUP1G04 provides the single inverting buffer. Schmitt trigger action at all inputs makes the circuit tolerant to slower input rise and fall times across the entire VCC range from 0.8 V to 3.6 V. This device ensures a very low static and dynamic power consumption across the entire VCC range from 0.8 V to 3.6 V. This device is fully specified for partial Power-down applications using IOFF. The IOFF circuitry disables the output, preventing the damaging backflow current through the device when it is powered down.    AAL Eindhoven MK
12NC: 9352 811 06132
footprint SOT891
part A pins: 3 GND (power), 6 VCC (power)
part B pins: 2 A, 4 Y (out)

## 74AUP1G04GM
designator U?, comment Low-power inverter The 74AUP1G04 provides the single inverting buffer. Schmitt trigger action at all inputs makes the circuit tolerant to slower input rise and fall times across the entire VCC range from 0.8 V to 3.6 V. This device ensures a very low static and dynamic power consumption across the entire VCC range from 0.8 V to 3.6 V. This device is fully specified for partial Power-down applications using IOFF. The IOFF circuitry disables the output, preventing the damaging backflow current through the device when it is powered down.    AAL Eindhoven MK
12NC: 9352 790 02115
footprint SOT886
part A pins: 3 GND (power), 6 VCC (power)
part B pins: 2 A, 4 Y (out)

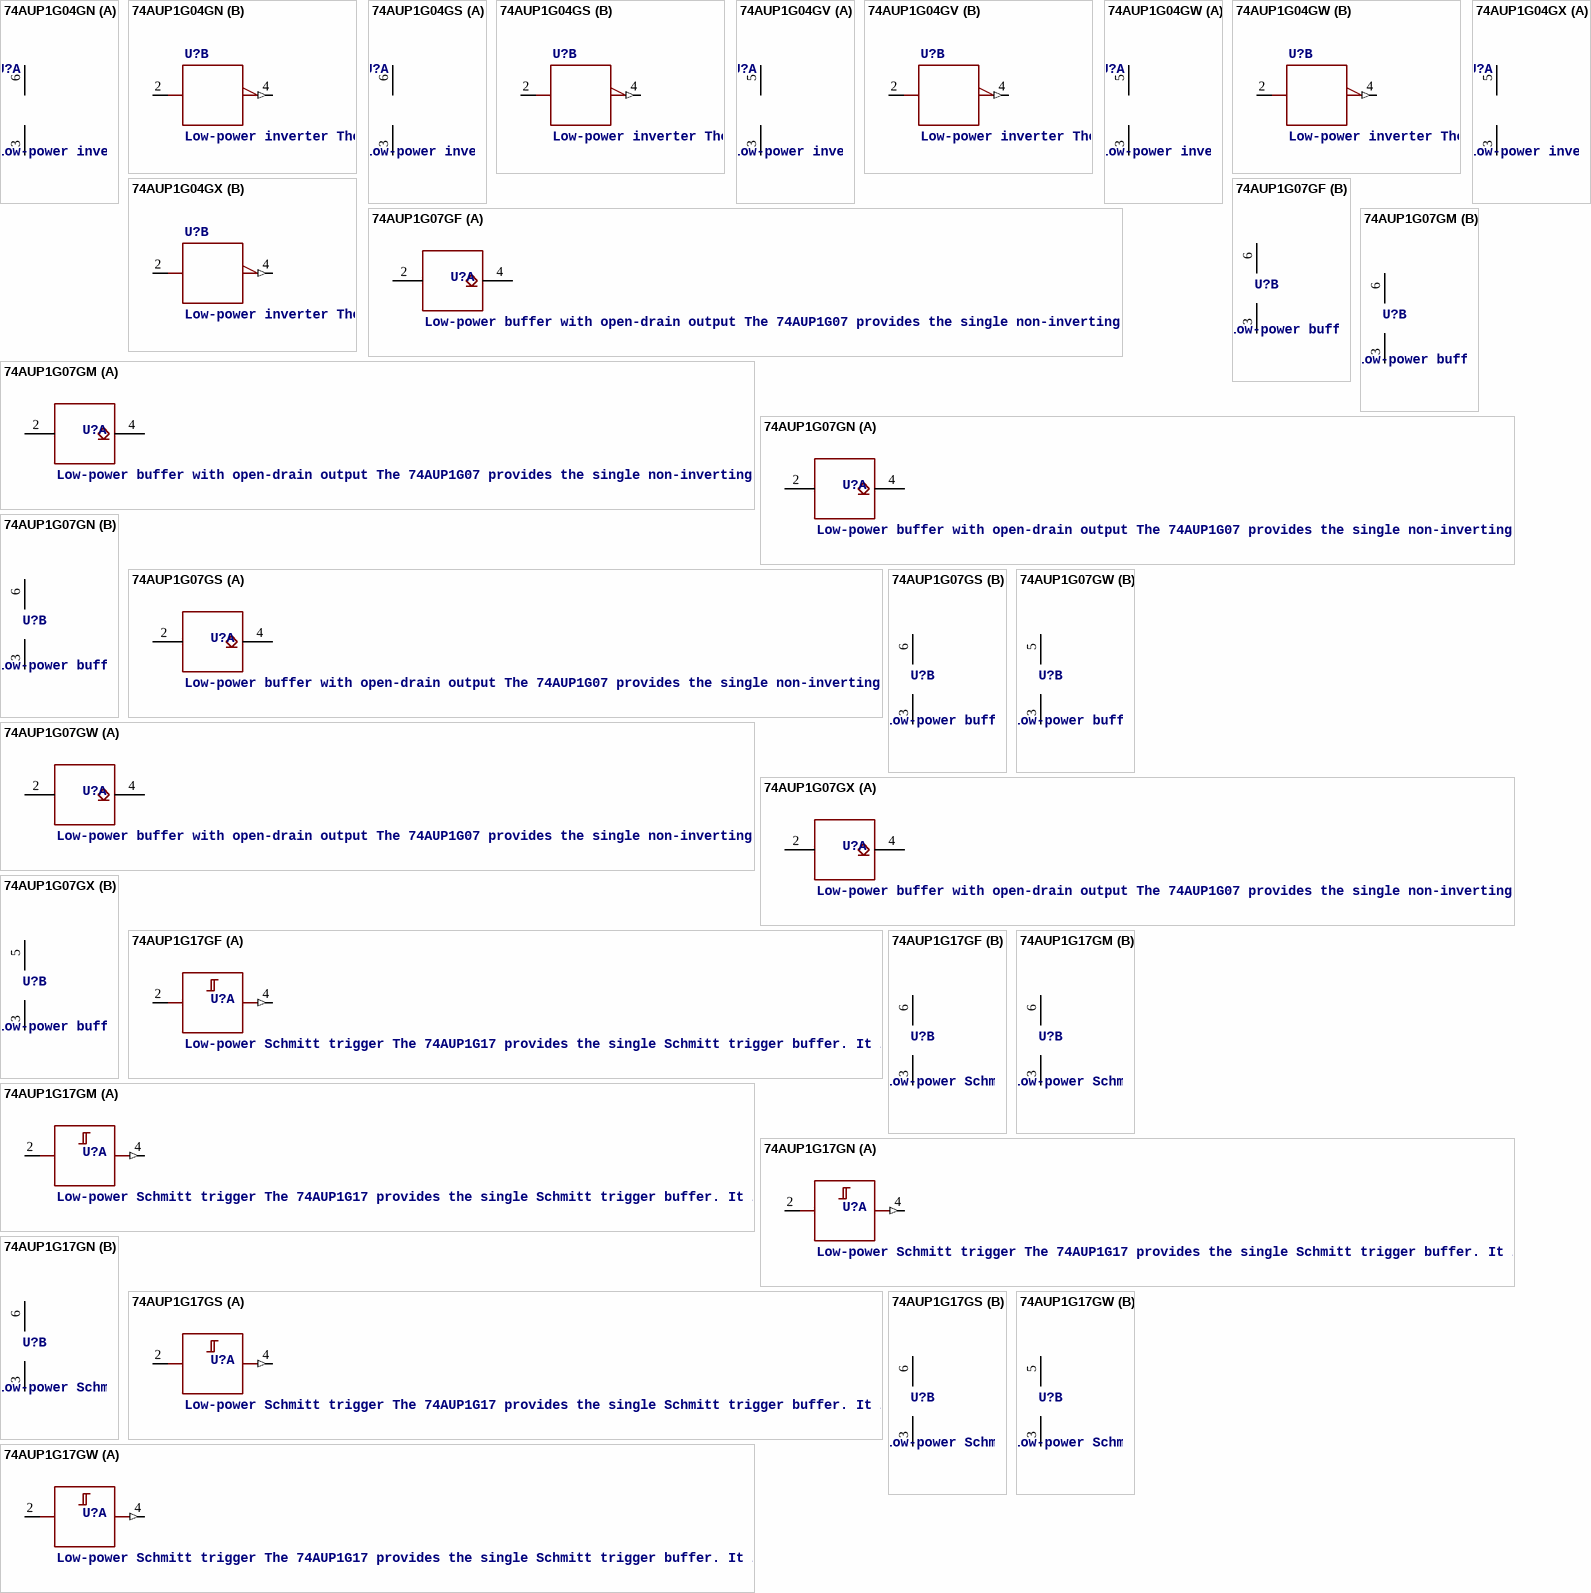
[diagram p5: symbols 74AUP1G04GN to 74AUP1G17GW]

## 74AUP1G04GN
designator U?, comment Low-power inverter The 74AUP1G04 provides the single inverting buffer. Schmitt trigger action at all inputs makes the circuit tolerant to slower input rise and fall times across the entire VCC range from 0.8 V to 3.6 V. This device ensures a very low static and dynamic power consumption across the entire VCC range from 0.8 V to 3.6 V. This device is fully specified for partial Power-down applications using IOFF. The IOFF circuitry disables the output, preventing the damaging backflow current through the device when it is powered down.    AAL Eindhoven MK
12NC: 9352 917 14132
footprint SOT1115
part A pins: 3 GND (power), 6 VCC (power)
part B pins: 2 A, 4 Y (out)

## 74AUP1G04GS
designator U?, comment Low-power inverter The 74AUP1G04 provides the single inverting buffer. Schmitt trigger action at all inputs makes the circuit tolerant to slower input rise and fall times across the entire VCC range from 0.8 V to 3.6 V. This device ensures a very low static and dynamic power consumption across the entire VCC range from 0.8 V to 3.6 V. This device is fully specified for partial Power-down applications using IOFF. The IOFF circuitry disables the output, preventing the damaging backflow current through the device when it is powered down.    AAL Eindhoven MK
12NC: 9352 928 27132
footprint SOT1202
part A pins: 3 GND (power), 6 VCC (power)
part B pins: 2 A, 4 Y (out)

## 74AUP1G04GV
designator U?, comment Low-power inverter The 74AUP1G04 provides the single inverting buffer. Schmitt trigger action at all inputs makes the circuit tolerant to slower input rise and fall times across the entire VCC range from 0.8 V to 3.6 V. This device ensures a very low static and dynamic power consumption across the entire VCC range from 0.8 V to 3.6 V. This device is fully specified for partial Power-down applications using IOFF. The IOFF circuitry disables the output, preventing the damaging backflow current through the device when it is powered down.    AAL Eindhoven MK
12NC: 9352 906 76125
footprint SOT753
part A pins: 3 GND (power), 5 VCC (power)
part B pins: 2 A, 4 Y (out)

## 74AUP1G04GW
designator U?, comment Low-power inverter The 74AUP1G04 provides the single inverting buffer. Schmitt trigger action at all inputs makes the circuit tolerant to slower input rise and fall times across the entire VCC range from 0.8 V to 3.6 V. This device ensures a very low static and dynamic power consumption across the entire VCC range from 0.8 V to 3.6 V. This device is fully specified for partial Power-down applications using IOFF. The IOFF circuitry disables the output, preventing the damaging backflow current through the device when it is powered down.    AAL Eindhoven MK
12NC: 9352 790 03125
footprint SOT353-1
part A pins: 3 GND (power), 5 VCC (power)
part B pins: 2 A, 4 Y (out)

## 74AUP1G04GX
designator U?, comment Low-power inverter The 74AUP1G04 provides the single inverting buffer. Schmitt trigger action at all inputs makes the circuit tolerant to slower input rise and fall times across the entire VCC range from 0.8 V to 3.6 V. This device ensures a very low static and dynamic power consumption across the entire VCC range from 0.8 V to 3.6 V. This device is fully specified for partial Power-down applications using IOFF. The IOFF circuitry disables the output, preventing the damaging backflow current through the device when it is powered down.    AAL Eindhoven MK
12NC: 9352 983 55125
footprint SOT1226
part A pins: 3 GND (power), 5 VCC (power)
part B pins: 2 A, 4 Y (out)

## 74AUP1G07GF
designator U?, comment Low-power buffer with open-drain output The 74AUP1G07 provides the single non-inverting buffer with open-drain output. The output of the device is an open drain and can be connected to other open-drain outputs to implement active-LOW wired-OR or active-HIGH wired-AND functions. Schmitt-trigger action at all inputs makes the circuit tolerant to slower input rise and fall times across the entire VCC range from 0.8 V to 3.6 V. This device ensures a very low static and dynamic power consumption across the entire VCC range from 0.8 V to 3.6 V. This device is fully specified for partial power-down applications using IOFF. The IOFF circuitry disables the output, preventing the damaging backflow current through the device when it is powered down.    AAL Eindhoven MK
footprint SOT891
part A pins: 2 A, 4 Y (oc)
part B pins: 3 GND (power), 6 VCC (power)

## 74AUP1G07GM
designator U?, comment Low-power buffer with open-drain output The 74AUP1G07 provides the single non-inverting buffer with open-drain output. The output of the device is an open drain and can be connected to other open-drain outputs to implement active-LOW wired-OR or active-HIGH wired-AND functions. Schmitt-trigger action at all inputs makes the circuit tolerant to slower input rise and fall times across the entire VCC range from 0.8 V to 3.6 V. This device ensures a very low static and dynamic power consumption across the entire VCC range from 0.8 V to 3.6 V. This device is fully specified for partial power-down applications using IOFF. The IOFF circuitry disables the output, preventing the damaging backflow current through the device when it is powered down.    AAL Eindhoven MK
footprint SOT886
part A pins: 2 A, 4 Y (oc)
part B pins: 3 GND (power), 6 VCC (power)

## 74AUP1G07GN
designator U?, comment Low-power buffer with open-drain output The 74AUP1G07 provides the single non-inverting buffer with open-drain output. The output of the device is an open drain and can be connected to other open-drain outputs to implement active-LOW wired-OR or active-HIGH wired-AND functions. Schmitt-trigger action at all inputs makes the circuit tolerant to slower input rise and fall times across the entire VCC range from 0.8 V to 3.6 V. This device ensures a very low static and dynamic power consumption across the entire VCC range from 0.8 V to 3.6 V. This device is fully specified for partial power-down applications using IOFF. The IOFF circuitry disables the output, preventing the damaging backflow current through the device when it is powered down.    AAL Eindhoven MK
footprint SOT1115
part A pins: 2 A, 4 Y (oc)
part B pins: 3 GND (power), 6 VCC (power)

## 74AUP1G07GS
designator U?, comment Low-power buffer with open-drain output The 74AUP1G07 provides the single non-inverting buffer with open-drain output. The output of the device is an open drain and can be connected to other open-drain outputs to implement active-LOW wired-OR or active-HIGH wired-AND functions. Schmitt-trigger action at all inputs makes the circuit tolerant to slower input rise and fall times across the entire VCC range from 0.8 V to 3.6 V. This device ensures a very low static and dynamic power consumption across the entire VCC range from 0.8 V to 3.6 V. This device is fully specified for partial power-down applications using IOFF. The IOFF circuitry disables the output, preventing the damaging backflow current through the device when it is powered down.    AAL Eindhoven MK
footprint SOT1202
part A pins: 2 A, 4 Y (oc)
part B pins: 3 GND (power), 6 VCC (power)

## 74AUP1G07GW
designator U?, comment Low-power buffer with open-drain output The 74AUP1G07 provides the single non-inverting buffer with open-drain output. The output of the device is an open drain and can be connected to other open-drain outputs to implement active-LOW wired-OR or active-HIGH wired-AND functions. Schmitt-trigger action at all inputs makes the circuit tolerant to slower input rise and fall times across the entire VCC range from 0.8 V to 3.6 V. This device ensures a very low static and dynamic power consumption across the entire VCC range from 0.8 V to 3.6 V. This device is fully specified for partial power-down applications using IOFF. The IOFF circuitry disables the output, preventing the damaging backflow current through the device when it is powered down.    AAL Eindhoven MK
12NC: 9352 790 17125
footprint SOT353-1
part A pins: 2 A, 4 Y (oc)
part B pins: 3 GND (power), 5 VCC (power)

## 74AUP1G07GX
designator U?, comment Low-power buffer with open-drain output The 74AUP1G07 provides the single non-inverting buffer with open-drain output. The output of the device is an open drain and can be connected to other open-drain outputs to implement active-LOW wired-OR or active-HIGH wired-AND functions. Schmitt-trigger action at all inputs makes the circuit tolerant to slower input rise and fall times across the entire VCC range from 0.8 V to 3.6 V. This device ensures a very low static and dynamic power consumption across the entire VCC range from 0.8 V to 3.6 V. This device is fully specified for partial power-down applications using IOFF. The IOFF circuitry disables the output, preventing the damaging backflow current through the device when it is powered down.    AAL Eindhoven MK
footprint SOT1226
part A pins: 2 A, 4 Y (oc)
part B pins: 3 GND (power), 5 VCC (power)

## 74AUP1G17GF
designator U?, comment Low-power Schmitt trigger The 74AUP1G17 provides the single Schmitt trigger buffer. It is capable of transforming slowly changing input signals into sharply defined, jitter-free output signals. This device ensures a very low static and dynamic power consumption across the entire VCC range from 0.8 V to 3.6 V. This device is fully specified for partial Power-down applications using IOFF. The IOFF circuitry disables the output, preventing the damaging backflow current through the device when it is powered down. The inputs switch at different points for positive and negative-going signals. The difference between the positive voltage VT+ and the negative voltage VT is defined as the input hysteresis voltage VH.    AAL Eindhoven MK
12NC: 9352 811 12132
footprint SOT891
part A pins: 2 A, 4 Y (out)
part B pins: 3 GND (power), 6 VCC (power)

## 74AUP1G17GM
designator U?, comment Low-power Schmitt trigger The 74AUP1G17 provides the single Schmitt trigger buffer. It is capable of transforming slowly changing input signals into sharply defined, jitter-free output signals. This device ensures a very low static and dynamic power consumption across the entire VCC range from 0.8 V to 3.6 V. This device is fully specified for partial Power-down applications using IOFF. The IOFF circuitry disables the output, preventing the damaging backflow current through the device when it is powered down. The inputs switch at different points for positive and negative-going signals. The difference between the positive voltage VT+ and the negative voltage VT is defined as the input hysteresis voltage VH.    AAL Eindhoven MK
12NC: 9352 790 25115
footprint SOT886
part A pins: 2 A, 4 Y (out)
part B pins: 3 GND (power), 6 VCC (power)

## 74AUP1G17GN
designator U?, comment Low-power Schmitt trigger The 74AUP1G17 provides the single Schmitt trigger buffer. It is capable of transforming slowly changing input signals into sharply defined, jitter-free output signals. This device ensures a very low static and dynamic power consumption across the entire VCC range from 0.8 V to 3.6 V. This device is fully specified for partial Power-down applications using IOFF. The IOFF circuitry disables the output, preventing the damaging backflow current through the device when it is powered down. The inputs switch at different points for positive and negative-going signals. The difference between the positive voltage VT+ and the negative voltage VT is defined as the input hysteresis voltage VH.    AAL Eindhoven MK
12NC: 9352 917 29132
footprint SOT1115
part A pins: 2 A, 4 Y (out)
part B pins: 3 GND (power), 6 VCC (power)

## 74AUP1G17GS
designator U?, comment Low-power Schmitt trigger The 74AUP1G17 provides the single Schmitt trigger buffer. It is capable of transforming slowly changing input signals into sharply defined, jitter-free output signals. This device ensures a very low static and dynamic power consumption across the entire VCC range from 0.8 V to 3.6 V. This device is fully specified for partial Power-down applications using IOFF. The IOFF circuitry disables the output, preventing the damaging backflow current through the device when it is powered down. The inputs switch at different points for positive and negative-going signals. The difference between the positive voltage VT+ and the negative voltage VT is defined as the input hysteresis voltage VH.    AAL Eindhoven MK
12NC: 9352 928 54132
footprint SOT1202
part A pins: 2 A, 4 Y (out)
part B pins: 3 GND (power), 6 VCC (power)

## 74AUP1G17GW
designator U?, comment Low-power Schmitt trigger The 74AUP1G17 provides the single Schmitt trigger buffer. It is capable of transforming slowly changing input signals into sharply defined, jitter-free output signals. This device ensures a very low static and dynamic power consumption across the entire VCC range from 0.8 V to 3.6 V. This device is fully specified for partial Power-down applications using IOFF. The IOFF circuitry disables the output, preventing the damaging backflow current through the device when it is powered down. The inputs switch at different points for positive and negative-going signals. The difference between the positive voltage VT+ and the negative voltage VT is defined as the input hysteresis voltage VH.    AAL Eindhoven MK
12NC: 9352 790 24125
footprint SOT353-1
part A pins: 2 A, 4 Y (out)
part B pins: 3 GND (power), 5 VCC (power)

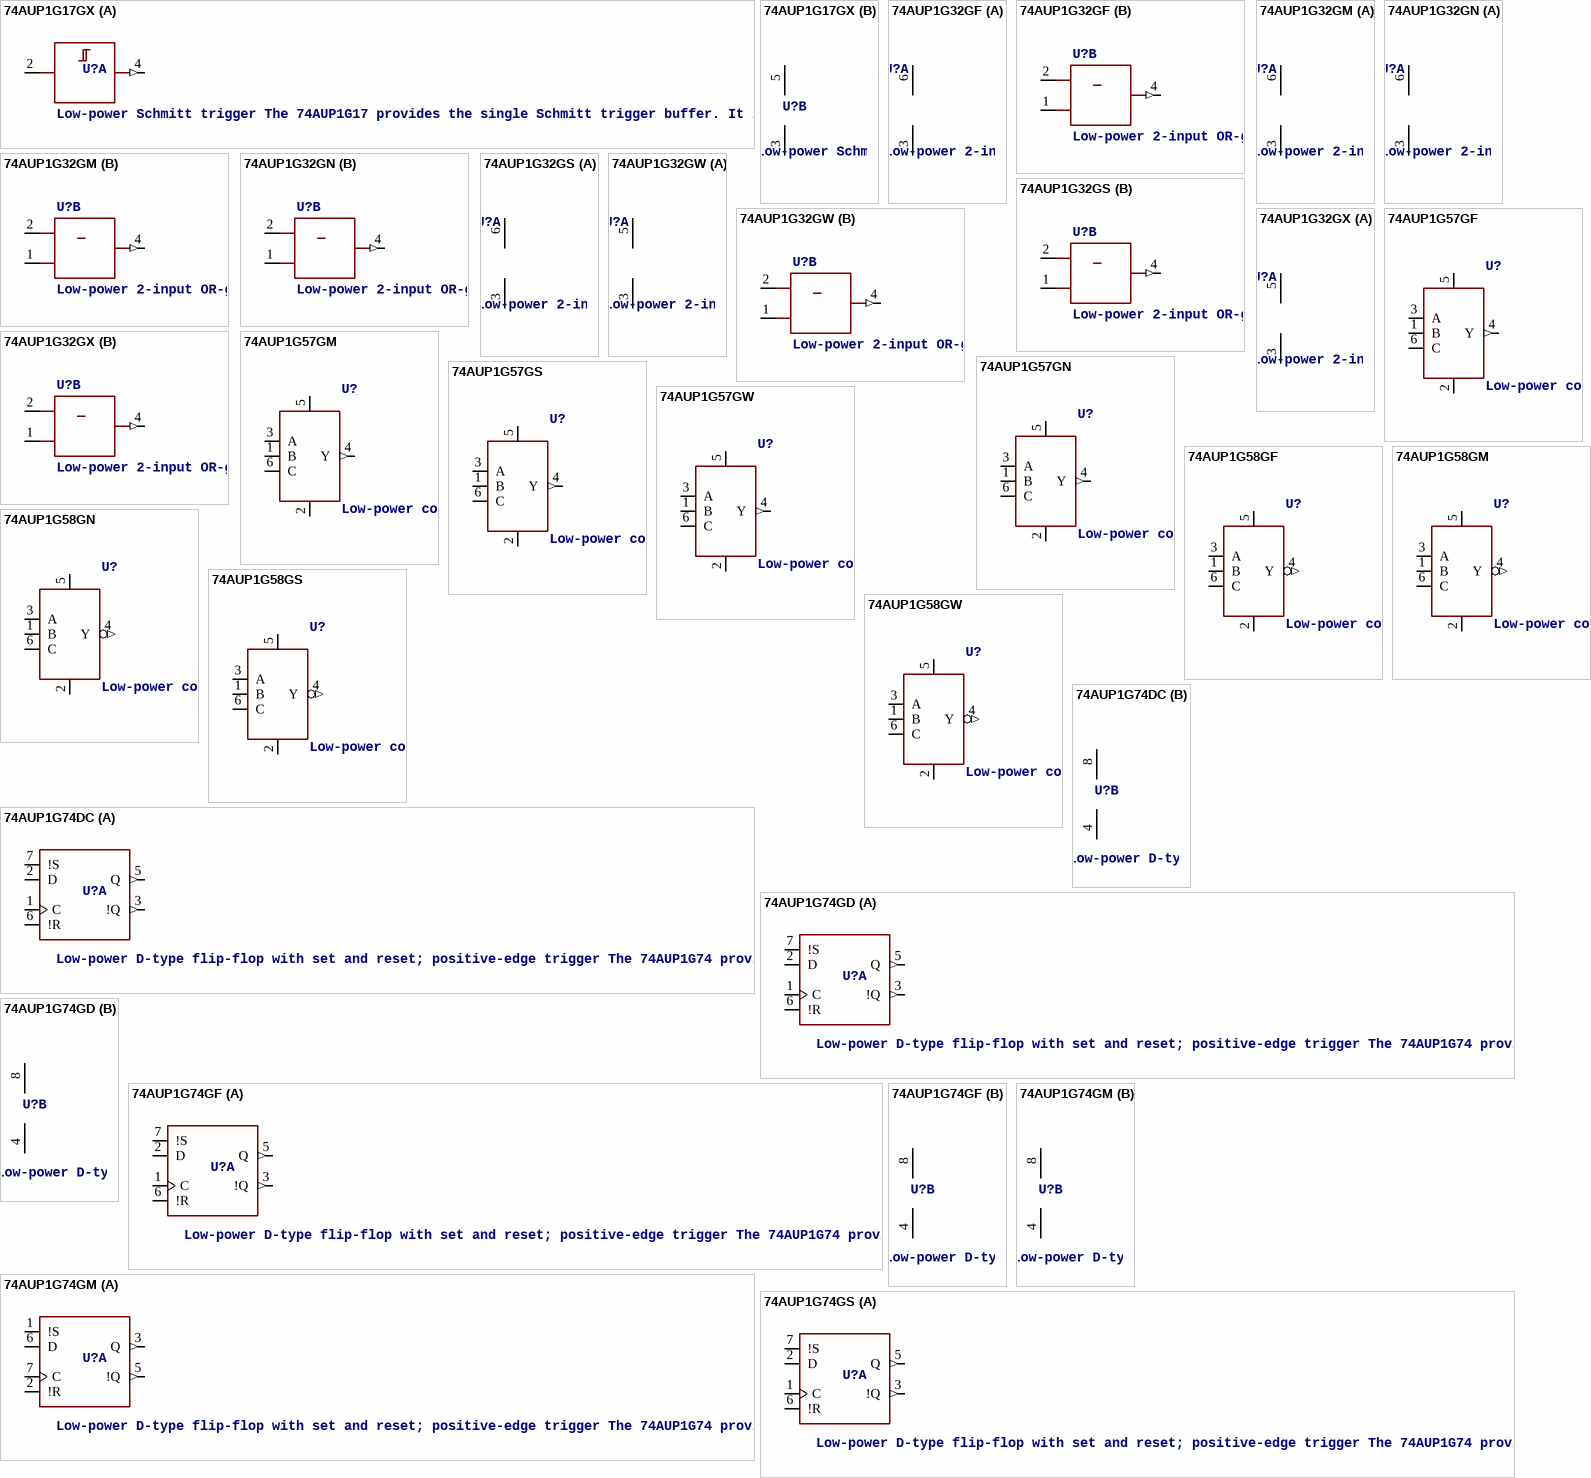
[diagram p6: symbols 74AUP1G17GX to 74AUP1G74GS]

## 74AUP1G17GX
designator U?, comment Low-power Schmitt trigger The 74AUP1G17 provides the single Schmitt trigger buffer. It is capable of transforming slowly changing input signals into sharply defined, jitter-free output signals. This device ensures a very low static and dynamic power consumption across the entire VCC range from 0.8 V to 3.6 V. This device is fully specified for partial Power-down applications using IOFF. The IOFF circuitry disables the output, preventing the damaging backflow current through the device when it is powered down. The inputs switch at different points for positive and negative-going signals. The difference between the positive voltage VT+ and the negative voltage VT is defined as the input hysteresis voltage VH.    AAL Eindhoven MK
12NC: 9352 982 28125
footprint SOT1226
part A pins: 2 A, 4 Y (out)
part B pins: 3 GND (power), 5 VCC (power)

## 74AUP1G32GF
designator U?, comment Low-power 2-input OR-gate The 74AUP1G32 provides the single 2-input OR function. Schmitt-trigger action at all inputs makes the circuit tolerant to slower input rise and fall times across the entire VCC range from 0.8 V to 3.6 V. This device ensures a very low static and dynamic power consumption across the entire VCC range from 0.8 V to 3.6 V. This device is fully specified for partial power-down applications using IOFF. The IOFF circuitry disables the output, preventing the damaging backflow current through the device when it is powered down.    AAL Eindhoven MK
footprint SOT891
part A pins: 3 GND (power), 6 VCC (power)
part B pins: 1 B, 2 A, 4 Y (out)

## 74AUP1G32GM
designator U?, comment Low-power 2-input OR-gate The 74AUP1G32 provides the single 2-input OR function. Schmitt-trigger action at all inputs makes the circuit tolerant to slower input rise and fall times across the entire VCC range from 0.8 V to 3.6 V. This device ensures a very low static and dynamic power consumption across the entire VCC range from 0.8 V to 3.6 V. This device is fully specified for partial power-down applications using IOFF. The IOFF circuitry disables the output, preventing the damaging backflow current through the device when it is powered down.    AAL Eindhoven MK
footprint SOT886
part A pins: 3 GND (power), 6 VCC (power)
part B pins: 1 B, 2 A, 4 Y (out)

## 74AUP1G32GN
designator U?, comment Low-power 2-input OR-gate The 74AUP1G32 provides the single 2-input OR function. Schmitt-trigger action at all inputs makes the circuit tolerant to slower input rise and fall times across the entire VCC range from 0.8 V to 3.6 V. This device ensures a very low static and dynamic power consumption across the entire VCC range from 0.8 V to 3.6 V. This device is fully specified for partial power-down applications using IOFF. The IOFF circuitry disables the output, preventing the damaging backflow current through the device when it is powered down.    AAL Eindhoven MK
footprint SOT1115
part A pins: 3 GND (power), 6 VCC (power)
part B pins: 1 B, 2 A, 4 Y (out)

## 74AUP1G32GS
designator U?, comment Low-power 2-input OR-gate The 74AUP1G32 provides the single 2-input OR function. Schmitt-trigger action at all inputs makes the circuit tolerant to slower input rise and fall times across the entire VCC range from 0.8 V to 3.6 V. This device ensures a very low static and dynamic power consumption across the entire VCC range from 0.8 V to 3.6 V. This device is fully specified for partial power-down applications using IOFF. The IOFF circuitry disables the output, preventing the damaging backflow current through the device when it is powered down.    AAL Eindhoven MK
footprint SOT1202
part A pins: 3 GND (power), 6 VCC (power)
part B pins: 1 B, 2 A, 4 Y (out)

## 74AUP1G32GW
designator U?, comment Low-power 2-input OR-gate The 74AUP1G32 provides the single 2-input OR function. Schmitt-trigger action at all inputs makes the circuit tolerant to slower input rise and fall times across the entire VCC range from 0.8 V to 3.6 V. This device ensures a very low static and dynamic power consumption across the entire VCC range from 0.8 V to 3.6 V. This device is fully specified for partial power-down applications using IOFF. The IOFF circuitry disables the output, preventing the damaging backflow current through the device when it is powered down.    AAL Eindhoven MK
footprint SOT353-1
part A pins: 3 GND (power), 5 VCC (power)
part B pins: 1 B, 2 A, 4 Y (out)

## 74AUP1G32GX
designator U?, comment Low-power 2-input OR-gate The 74AUP1G32 provides the single 2-input OR function. Schmitt-trigger action at all inputs makes the circuit tolerant to slower input rise and fall times across the entire VCC range from 0.8 V to 3.6 V. This device ensures a very low static and dynamic power consumption across the entire VCC range from 0.8 V to 3.6 V. This device is fully specified for partial power-down applications using IOFF. The IOFF circuitry disables the output, preventing the damaging backflow current through the device when it is powered down.    AAL Eindhoven MK
footprint SOT1226
part A pins: 3 GND (power), 5 VCC (power)
part B pins: 1 B, 2 A, 4 Y (out)

## 74AUP1G57GF
designator U?, comment Low-power configurable gate The 74AUP1G57 provides configurable multiple functions. The output state is determined by eight patterns of 3-bit input. The user can choose the logic functions AND, OR, NAND, NOR, XNOR, inverter, and buffer. All inputs can be connected to VCC or GND. This device ensures a very low static and dynamic power consumption across the entire VCC range from 0.8 V to 3.6 V. This device is fully specified for partial power-down applications using IOFF. The IOFF circuitry disables the output, preventing the damaging backflow current through the device when it is powered down. The 74AUP1G57 has Schmitt trigger inputs making it capable of transforming slowly changing input signals into sharply defined, jitter-free output signals. The inputs switch at different points for positive and negative-going signals. The difference between the positive voltage VT+ and the negative voltage VT- is defined as the input hysteresis voltage VH.   AAL Eindhoven MK
12NC: 9352 813 28132
footprint SOT891
pins: 1 B, 2 GND (power), 3 A, 4 Y (out), 5 VCC (power), 6 C

## 74AUP1G57GM
designator U?, comment Low-power configurable gate The 74AUP1G57 provides configurable multiple functions. The output state is determined by eight patterns of 3-bit input. The user can choose the logic functions AND, OR, NAND, NOR, XNOR, inverter, and buffer. All inputs can be connected to VCC or GND. This device ensures a very low static and dynamic power consumption across the entire VCC range from 0.8 V to 3.6 V. This device is fully specified for partial power-down applications using IOFF. The IOFF circuitry disables the output, preventing the damaging backflow current through the device when it is powered down. The 74AUP1G57 has Schmitt trigger inputs making it capable of transforming slowly changing input signals into sharply defined, jitter-free output signals. The inputs switch at different points for positive and negative-going signals. The difference between the positive voltage VT+ and the negative voltage VT- is defined as the input hysteresis voltage VH.   AAL Eindhoven MK
12NC: 9352 799 58132
footprint SOT886
pins: 1 B, 2 GND (power), 3 A, 4 Y (out), 5 VCC (power), 6 C

## 74AUP1G57GN
designator U?, comment Low-power configurable gate The 74AUP1G57 provides configurable multiple functions. The output state is determined by eight patterns of 3-bit input. The user can choose the logic functions AND, OR, NAND, NOR, XNOR, inverter, and buffer. All inputs can be connected to VCC or GND. This device ensures a very low static and dynamic power consumption across the entire VCC range from 0.8 V to 3.6 V. This device is fully specified for partial power-down applications using IOFF. The IOFF circuitry disables the output, preventing the damaging backflow current through the device when it is powered down. The 74AUP1G57 has Schmitt trigger inputs making it capable of transforming slowly changing input signals into sharply defined, jitter-free output signals. The inputs switch at different points for positive and negative-going signals. The difference between the positive voltage VT+ and the negative voltage VT- is defined as the input hysteresis voltage VH.   AAL Eindhoven MK
I2C: 9352 917 43132
footprint SOT1115
pins: 1 B, 2 GND (power), 3 A, 4 Y (out), 5 VCC (power), 6 C

## 74AUP1G57GS
designator U?, comment Low-power configurable gate The 74AUP1G57 provides configurable multiple functions. The output state is determined by eight patterns of 3-bit input. The user can choose the logic functions AND, OR, NAND, NOR, XNOR, inverter, and buffer. All inputs can be connected to VCC or GND. This device ensures a very low static and dynamic power consumption across the entire VCC range from 0.8 V to 3.6 V. This device is fully specified for partial power-down applications using IOFF. The IOFF circuitry disables the output, preventing the damaging backflow current through the device when it is powered down. The 74AUP1G57 has Schmitt trigger inputs making it capable of transforming slowly changing input signals into sharply defined, jitter-free output signals. The inputs switch at different points for positive and negative-going signals. The difference between the positive voltage VT+ and the negative voltage VT- is defined as the input hysteresis voltage VH.   AAL Eindhoven MK
12NC: 9352 928 67132
footprint SOT1202
pins: 1 B, 2 GND (power), 3 A, 4 Y (out), 5 VCC (power), 6 C